# Altium schematic symbol library CC0805MKX5R5BB476.SchLib: 1 symbol
Pins are listed as number, name and electrical type; pins without a type are passive.

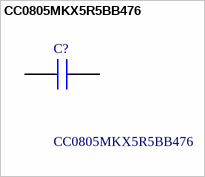
[diagram p0: symbol CC0805MKX5R5BB476]

## CC0805MKX5R5BB476
designator C?
Yageo, 0805 (2012M) 47uF MLCC 6.3V dc +/- 20% , SMD CC0805MKX5R5BB476; Manufacturer_Name: Yageo Group; Geometry.Height: 1.45mm; Mouser Part Number: 603-CC805MKX5R5BB476; Mouser Price/Stock: https://www.mouser.co.uk/ProductDetail/YAGEO/CC0805MKX5R5BB476?qs=57cj7OiSijnyUCeGU0RcsQ%3D%3D; Manufacturer_Part_Number: CC0805MKX5R5BB476; Datasheet Link: https://www.yageo.com/upload/media/product/productsearch/datasheet/mlcc/UPY-GPHC_X5R_4V-to-50V_26.pdf
footprint CAPC2012X145N
pins: 1, 2